# EAGLE library part 115A-ADA0-R02 (library sim_holders)
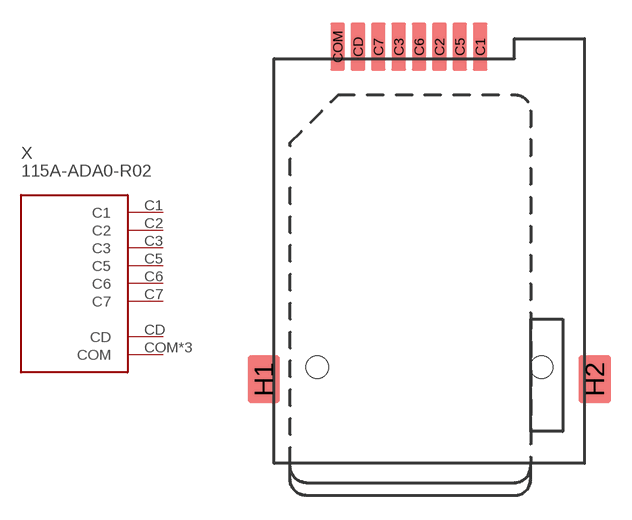
[diagram p0: symbol with the pads of 115A-ADA0-R02; footprint 115A-ADA0-R02]

Designator prefix X

## 115A-ADA0-R02  [115A-ADA0-R02]
C1  C1
C2  C2
C3  C3
C5  C5
C6  C6
C7  C7
CD  CD
COM  COM
H1  COM
H2  COM

## Footprint 115A-ADA0-R02 (pad centres in mm)
smd 0.9 x 3: C1 12.85,26; C2 10.31,26; C3 7.77,26; C5 11.58,26; C6 9.04,26; C7 6.5,26; CD 5.23,26; COM 3.96,26
smd 2 x 3: H1 -0.65,5.25; H2 20,5.25
hole 1.4 at 2.68,6
hole 1.4 at 16.68,6